# Altium footprint library SOT323.PcbLib: 1 footprints
Each footprint in its own frame and in the unit in brackets; x right, y up, seen from the top. Pads: shape width x height; smd on the part's side, far side on the other; paste and mask are expansions set on the pad; w line width, h text height; cw(c..) or ccw(c..) is an arc to the next point about the centre after c.
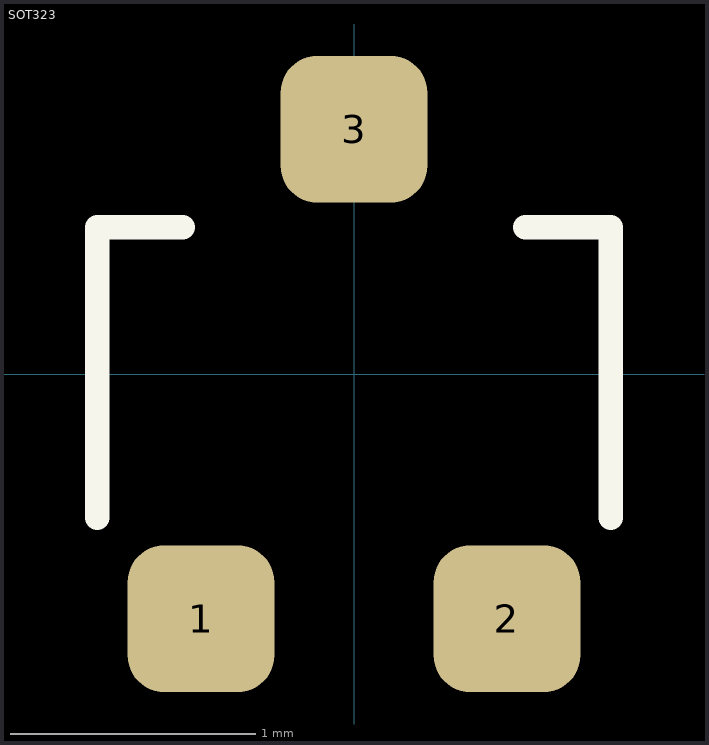
[diagram p0: the footprint, top view; thin cyan lines are the x and y axes]

## SOT323 [mm] "SOT-323/SC-70; 3 Leads; Body 2.2 x 2.2 mm, inc. leads (LxW max)"
height 1
pads (3):
  rrect50% 0.6x0.6 smd: 1(-0.625,-1) 2(0.625,-1) 3(0,1)
Top Overlay:
  lines w0.1: -1.05,-0.587 -1.05,0.6 -0.7,0.6 ; 0.7,0.6 1.05,0.6 1.05,-0.587
3D body "SOT323.STEP": height 1, standoff 0, extent -1.05,-1.15 1.05,1.15